# Altium footprint library Circuit Protection Footprints.PcbLib: 2 footprints
Each footprint in its own frame and in the unit in brackets; x right, y up, seen from the top. Pads: shape width x height; smd on the part's side, far side on the other; paste and mask are expansions set on the pad; w line width, h text height; cw(c..) or ccw(c..) is an arc to the next point about the centre after c.
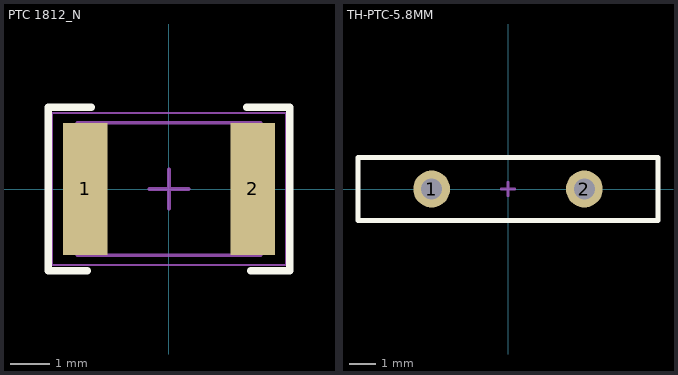
[diagram p0: the footprints below, top view; thin cyan lines are the x and y axes]

## PTC 1812_N [mm] "PTC Fuse, Body 4.5x3.2mm, IPC Medium Density"
height 0.71
pads (2):
  rect 1.15x3.4 smd: 1(-2.15,0) 2(2.15,0)
Top Overlay:
  lines w0.2: -2.1,-2.1 -3.1,-2.1 -3.1,2.1 -2,2.1 ; 2,2.1 3.1,2.1 3.1,-2.1 2.1,-2.1
Mechanical 13:
  lines w0.1: -2.35,-1.7 2.35,-1.7 2.35,1.7 -2.35,1.7 -2.35,-1.7
Mechanical 15:
  lines w0.05: -3,-1.95 3,-1.95 3,1.95 -3,1.95 -3,-1.95
  lines w0.1: -0.5,0 0.5,0 ; 0,-0.5 0,0.5
3D body: height 0.71, standoff 0, extent -2.35,-1.7 -1.8,1.7
3D body: height 0.71, standoff 0, extent -1.8,-1.699 1.801,1.7
3D body: height 0.71, standoff 0, extent 1.801,-1.7 2.35,1.7

## TH-PTC-5.8MM [mm] "PTC Fuse, Through Hole, Radial, 5.8mm Pitch"
height 18.3
pads (2):
  round 1.4 hole 0.8 unplated paste+0: 1(-2.9,0) 2(2.9,0)
Top Overlay:
  lines w0.2: -5.7,-1.2 5.7,-1.2 5.7,1.2 -5.7,1.2 -5.7,-1.2
Mechanical 13:
  lines w0.1: -5.7,-1.2 -5.7,1.2 5.7,1.2 5.7,-1.2 -5.7,-1.2
Mechanical 15:
  lines w0.1: -0.254,0 0.254,0 ; 0,-0.254 0,0.254